# EAGLE library part AD7091R-5 (library Analog Devices)
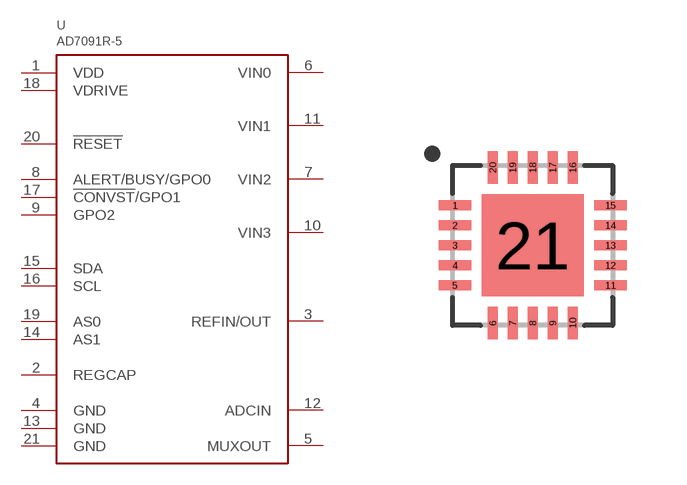
[diagram p14: symbol with the pads of QFN20_0.5P; footprint QFN20_0.5P]

Designator prefix U

## AD7091R-5  [QFN20_0.5P]
1  VDD
2  REGCAP
3  REFIN/OUT
4  GND
5  MUXOUT
6  VIN0
7  VIN2
8  ALERT/BUSY/GPO0
9  GPO2
10  VIN3
11  VIN1
12  ADCIN
13  GND
14  AS1
15  SDA
16  SCL
17  !CONVST!/GPO1
18  VDRIVE
19  AS0
20  !RESET
21  GND

## Footprint QFN20_0.5P (pad centres in mm)
smd 0.813 x 0.25: 1 -1.943,1; 2 -1.943,0.5; 3 -1.943,0; 4 -1.943,-0.5; 5 -1.943,-1; 11 1.943,-1; 12 1.943,-0.5; 13 1.943,0; 14 1.943,0.5; 15 1.943,1
smd 0.25 x 0.813: 6 -1,-1.943; 7 -0.5,-1.943; 8 0,-1.943; 9 0.5,-1.943; 10 1,-1.943; 16 1,1.943; 17 0.5,1.943; 18 0,1.943; 19 -0.5,1.943; 20 -1,1.943
smd 2.55 x 2.55: 21 0,0